# Altium schematic symbol library FPC_CONNECTOR.SchLib: 1 symbol
Pins are listed as number, name and electrical type; pins without a type are passive.

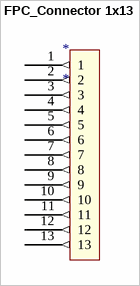
[diagram p0: symbol FPC_Connector 1x13]

## FPC_Connector 1x13
designator *
footprint FPC Connector 1x13
pins: 1 (out), 2 (out), 3 (out), 4 (out), 5 (out), 6 (out), 7 (out), 8 (out), 9 (out), 10 (out), 11 (out), 12 (out), 13 (out)